# EAGLE library part LM3402 (library LM3402)
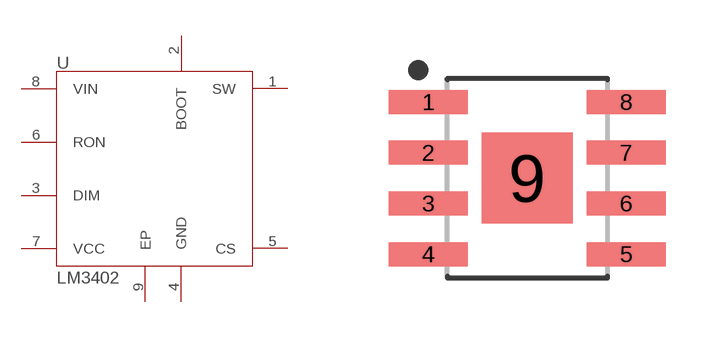
[diagram p0: symbol with the pads of SOIC127P600X170-9T228N; footprint SOIC127P600X170-9T228N]

Designator prefix U

## LM3402  [SOIC127P600X170-9T228N]
1  SW
2  BOOT
3  DIM
4  GND
5  CS
6  RON
7  VCC
8  VIN
9  EP

## Footprint SOIC127P600X170-9T228N (pad centres in mm)
8-SOIC, 1.27 mm pitch, 6.00 mm span, 4.90 X 3.90 X 1.70 mm body, 2.28 X 2.28 mm thermal pad 8-pin SOIC package with 1.27 mm pitch, 6.00 mm span with body size 4.90 X 3.90 X 1.70 mm and thermal pad size 2.28 X 2.28 mm
smd 1.968 x 0.599: 1 -2.473,1.905; 2 -2.473,0.635; 3 -2.473,-0.635; 4 -2.473,-1.905; 5 2.473,-1.905; 6 2.473,-0.635; 7 2.473,0.635; 8 2.473,1.905
smd 2.28 x 2.28: 9 0,0